# Altium schematic symbol library RD901F-40-15R1-B100K-00DL1.SchLib: 1 symbol
Pins are listed as number, name and electrical type; pins without a type are passive.

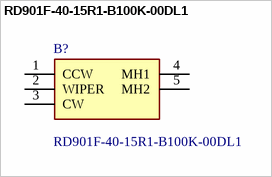
[diagram p0: symbol RD901F-40-15R1-B100K-00DL1]

## RD901F-40-15R1-B100K-00DL1
designator B?
Potentiometers 9mm Linear 100K Round Shaft 50 mW (1/20 W) Power Rating 50 VAC , -10C to +70C; Manufacturer_Name: Alpha (Taiwan); Geometry.Height: 26mm; Manufacturer_Part_Number: RD901F-40-15R1-B100K-00DL1; Mouser Part Number: 311-1940F-15R1-B100K; Mouser Price/Stock: https://www.mouser.co.uk/ProductDetail/Alpha-Taiwan/RD901F-40-15R1-B100K-00DL1?qs=1mbolxNpo8czbLgndpJJVQ%3D%3D; Arrow Part Number: *; Arrow Price/Stock: *; Datasheet Link: https://eu.mouser.com/datasheet/2/13/alpha_taiwan_08192019_RD901F-40-15R1-B(resistance_-1627810.pdf
footprint RD901F4015R1B100K00DL1
pins: 1 CCW, 2 WIPER, 3 CW, 4 MH1, 5 MH2